# Altium schematic symbol library Product.SchLib: 1 symbol
Pins are listed as number, name and electrical type; pins without a type are passive.

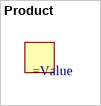
[diagram p0: symbol Product]

## Product
designator ?
=Description